# Altium schematic symbol library SOLDERBRIDGE_OPEN.Schlib: 1 symbol
Pins are listed as number, name and electrical type; pins without a type are passive.

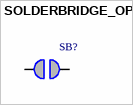
[diagram p0: symbol SOLDERBRIDGE_OPEN]

## SOLDERBRIDGE_OPEN
designator SB?
pins: 1, 2